# Altium schematic symbol library NANO_STM32F103.SchLib: 5 symbols
Pins are listed as number, name and electrical type; pins without a type are passive.

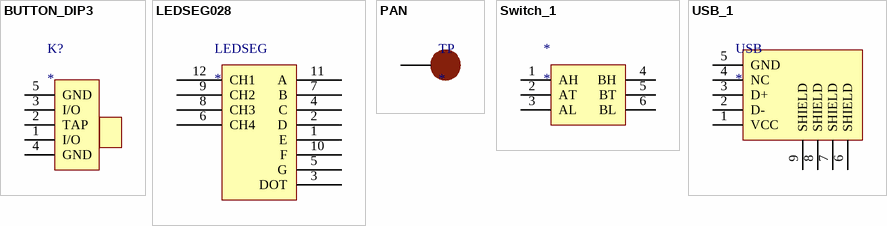
[diagram p0: symbols BUTTON_DIP3 to USB_1]

## BUTTON_DIP3
designator K?
拨动开关
pins: 1 I/O, 2 TAP, 3 I/O, 4 GND, 5 GND

## LEDSEG028
designator LEDSEG
四位八段数码管_共阴极
pins: 1 E, 2 D, 3 DOT, 4 C, 5 G, 6 CH4, 7 B, 8 CH3, 9 CH2, 10 F, 11 A, 12 CH1

## PAN
designator TP
圆形焊盘
pins: 1

## Switch_1
designator *
pins: 1 AH, 2 AT, 3 AL, 4 BH, 5 BT, 6 BL

## USB_1
designator USB
pins: 1 VCC, 2 D-, 3 D+, 4 NC, 5 GND, 6 SHIELD, 7 SHIELD, 8 SHIELD, 9 SHIELD